# Altium footprint library switch-omron.PCBLIB: 9 footprints
Each footprint in its own frame and in the unit in brackets; x right, y up, seen from the top. Pads: shape width x height; smd on the part's side, far side on the other; paste and mask are expansions set on the pad; w line width, h text height; cw(c..) or ccw(c..) is an arc to the next point about the centre after c.
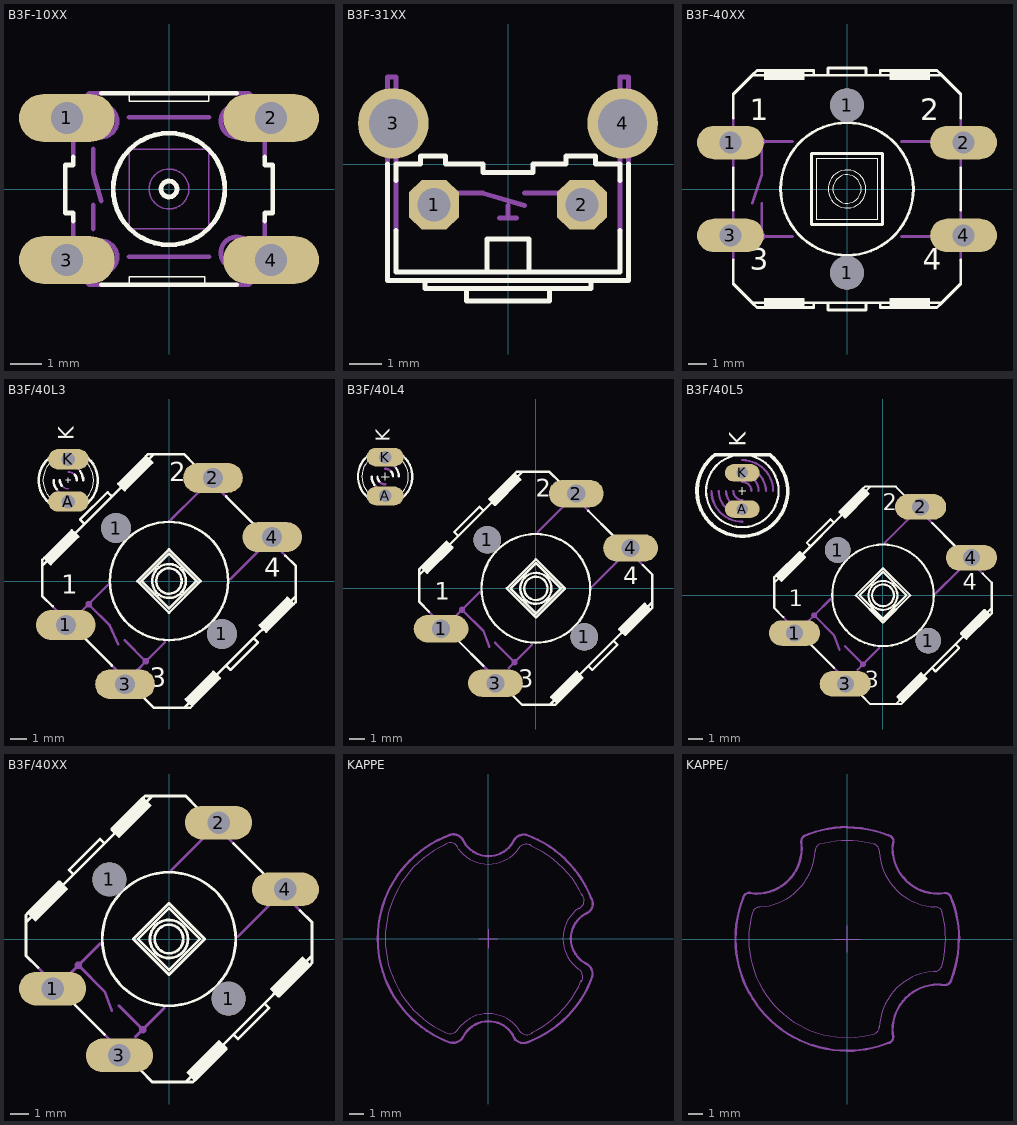
[diagram p0: the footprints below, top view; thin cyan lines are the x and y axes]

## B3F-10XX [mil]
pads (4):
  oval 120x60 hole 40: 1(-128,89) 2(128,89) 3(-128,-89) 4(128,-89)
Top Overlay:
  circle w6: c0,0 r70
  circle w6: c0,0 r10
  lines w2: -50,-120 -50,-110 45,-110 45,-120 ; -50,120 -50,110 50,110 50,120
  lines w6: -120,-40 -120,-30 -130,-30 -130,30 -120,30 -120,40 ; -85,-120 -50,-120 45,-120 85,-120 ; -85,120 -50,120 50,120 85,120 ; 120,-40 120,-30 130,-30 130,30 120,30 120,40
Mechanical 16:
  circle w6: c-85,-85 r20
  circle w6: c85,-80 r20
  circle w6: c85,85 r20
  circle w6: c-85,85 r20
  circle w2: c0,0 r25
  lines w2: -50,-50 -50,50 50,50 50,-50 -50,-50
  lines w6: -120,-40 -120,-100 -100,-120 -85,-120 ; -120,40 -120,100 -100,120 -85,120 ; -95,-50 -95,-20 ; -95,50 -95,20 -85,-15 ; -50,-85 50,-85 ; -50,90 50,90 ; 85,-120 100,-120 120,-100 120,-40 ; 85,120 100,120 120,100 120,40
  text "1" at -170,65 h77.5
  text "2" at 140,60 h77.5
  text "3" at -180,-110 h77.5
  text "4" at 140,-110 h77.5

## B3F-31XX [mil]
pads (4):
  oct 60x60 hole 40: 1(-89,-49) 2(89,-49)
  round 85 hole 59: 3(-138,49) 4(138,49)
Top Overlay:
  lines w6: -145,0 -145,-140 100,-140 ; -135,-80 -135,-130 -25,-130 ; -135,-20 -135,0 -105,0 -105,10 -75,10 -75,0 -30,0 -30,-10 30,-10 30,0 70,0 70,10 105,10 105,0 135,0 135,-20 ; -100,-140 -100,-150 -50,-150 ; 135,-80 135,-130 25,-130 ; 145,0 145,-140 100,-140 ; -50,-150 -50,-165 50,-165 50,-150 ; -50,-150 50,-150 ; -25,-130 -25,-90 25,-90 25,-130 ; -25,-130 25,-130 ; 50,-150 100,-150 100,-140
Mechanical 16:
  lines w6: -145,0 -145,105 -135,105 -135,0 ; -135,-80 -135,-20 ; -65,-35 -30,-35 20,-50 ; -10,-65 0,-65 ; 0,-50 0,-65 ; 10,-65 0,-65 ; 20,-35 65,-35 ; 135,-80 135,-20 ; 135,0 135,105 145,105 145,0

## B3F-40XX [mil]
pads (6):
  oval 141x70.5 hole 47: 1(-246,98) 2(246,98) 3(-246,-98) 4(246,-98)
  round 71 hole 71: 1(0,-177) 1(0,177)
Top Overlay:
  circle w6: c0,0 r140
  circle w2: c0,0 r40
  circle w2: c0,0 r30
  rectangle: 90,230 175,250
  rectangle: -175,230 -90,250
  rectangle: 90,-250 175,-230
  rectangle: -175,-250 -90,-230
  lines w2: -65,-65 65,-65 65,65 -65,65 -65,-65
  lines w6: -240,-150 -240,-200 -200,-240 ; -240,-45 -240,45 ; -240,150 -240,200 -200,240 ; 240,-150 240,-200 200,-240 ; 240,-45 240,45 ; 240,150 240,200 200,240 ; -200,-240 -70,-240 ; -200,-240 -190,-250 -70,-250 -70,-240 ; -200,240 -70,240 ; -200,240 -190,250 -70,250 -70,240 ; -70,-240 -40,-240 ; -70,240 -40,240 ; -40,-240 -40,-255 40,-255 40,-240 ; -40,-240 40,-240 ; -40,240 -40,255 40,255 40,240 ; -40,240 40,240 ; 40,-240 70,-240 ; 40,240 70,240 ; 70,-240 70,-250 190,-250 200,-240 ; 70,-240 200,-240 ; 70,240 200,240 ; 70,240 70,250 190,250 200,240 ; -75,-75 75,-75 75,75 -75,75 -75,-75
  text "1" at -205,130 h77.5
  text "2" at 155,130 h77.5
  text "3" at -205,-185 h77.5
  text "4" at 160,-185 h77.5
Mechanical 16:
  circle w6: c-180,100 r5
  circle w6: c-180,-100 r5
  rectangle: 240,-115 260,-80
  rectangle: 240,80 260,115
  rectangle: -260,80 -240,115
  rectangle: -260,-115 -240,-80
  lines w6: -240,-150 -240,-45 ; -240,45 -240,150 ; -200,-100 -180,-100 ; -200,-30 -180,30 -180,100 ; -200,100 -180,100 ; -180,-30 -180,-100 ; -115,-100 -180,-100 ; -115,100 -180,100 ; 115,-100 200,-100 ; 115,100 200,100 ; 240,-150 240,-45 ; 240,45 240,150

## B3F/40L3 [mil]
pads (8):
  oval 141x70.5 hole 47: 1(-244,-104) 2(104,244) 3(-104,-244) 4(244,104)
  round 71 hole 71: 1(-125,125) 1(125,-125)
  oval 96x48 hole 32: A(-238,188) K(-238,288)
Top Overlay:
  circle w6: c0,0 r140
  circle w6: c0,0 r40
  circle w6: c0,0 r30
  lines w2: -277.69,193 cw(c-238,238) -277.69,283 ; -244,238 -232,238 ; -238,232 -238,244 ; -198.31,193 ccw(c-238,238) -198.31,283
  lines w6: -277.19,180 cw(c-238,238) -277.19,296 ; -275,-60 -300,-35 -300,35 ; -273,238 ccw(c-238.37,238.12) -265.81,217 ; -258,238 ccw(c-238,238) -253.2,225 ; -230,115 -290,55 -290,50 ; -222.8,251 cw(c-238,238) -218,238 ; -220,105 -280,45 -280,40 ; -210.19,260 cw(c-239.11,238.38) -203,238 ; -200,-135 -135,-200 ; -198.81,180 ccw(c-238,238) -198.81,296 ; -115,230 -55,290 -55,295 ; -105,220 -45,280 -45,285 ; -60,-275 -35,-300 35,-300 ; 60,275 35,300 -35,300 ; 105,-220 45,-280 45,-285 ; 115,-230 55,-290 55,-295 ; 135,200 200,135 ; 200,-135 210,-145 145,-210 135,-200 ; 220,-105 280,-45 280,-40 ; 230,-115 290,-55 290,-50 ; 275,60 300,35 300,-35 ; -300,35 -200,135 ; -300,35 -300,50 -295,55 ; -295,55 -230,120 -225,115 ; -295,55 -290,50 ; -290,50 -225,115 ; -290,50 -285,45 ; -285,45 -220,110 ; -285,45 -280,40 ; -280,40 -215,105 -220,110 ; -225,115 -220,110 ; -200,135 -210,145 -145,210 -135,200 ; -200,135 -135,200 ; -135,200 -35,300 ; -115,225 -120,230 -55,295 ; -115,225 -50,290 ; -115,225 -110,220 ; -110,220 -45,285 ; -110,220 -105,215 -40,280 -45,285 ; -55,295 -50,290 ; -55,295 -50,300 -35,300 ; -50,290 -45,285 ; 35,-300 135,-200 ; 35,-300 50,-300 55,-295 ; 40,-280 105,-215 110,-220 ; 40,-280 45,-285 ; 40,-280 55,-295 ; 45,-285 110,-220 ; 45,-285 50,-290 ; 50,-290 115,-225 ; 50,-290 55,-295 ; 55,-295 120,-230 115,-225 ; 110,-220 115,-225 ; 135,-200 300,-35 ; 220,-110 215,-105 280,-40 ; 220,-110 285,-45 ; 220,-110 225,-115 ; 225,-115 290,-50 ; 225,-115 230,-120 295,-55 ; 280,-40 285,-45 ; 285,-45 290,-50 ; 290,-50 295,-55 ; 295,-55 300,-50 300,-35 ; -75,0 0,-75 75,0 0,75 -75,0 ; -65,0 0,-65 65,0 0,65 -65,0
  text "K" at -214,333 h62
  text "1" at -255,-45 h77.5
  text "2" at 0,220 h77.5
  text "3" at -45,-265 h77.5
  text "4" at 225,-5 h77.5
Mechanical 2:
  text "LED3" at -178,318 h77.5
Mechanical 16:
  circle w6: c-55,-190 r5
  circle w6: c-190,-55 r5
  lines w4: -277.68,193 ccw(c-238,238) -198.32,193 ; -277.68,283 cw(c-238,238) -198.32,283 ; -277.19,180 ccw(c-238,238) -198.81,180 ; -277.19,296 cw(c-238,238) -198.81,296 ; -269,300 -207,300 ; -265.81,217 ccw(c-237.75,238.13) -238,203 ; -253.2,225 ccw(c-238,238) -238,218 ; -238,258 cw(c-238,238) -222.8,251 ; -238,273 cw(c-237.24,238.37) -210.19,260
  lines w6: -275,-60 -250,-85 ; -250,-90 -230,-110 -225,-110 ; -235,-115 -255,-95 -255,-90 ; -210,-75 -190,-55 ; -200,-135 -225,-110 ; -145,-10 -190,-55 ; -135,-200 -110,-225 ; -120,-150 -140,-105 -190,-55 ; -110,-230 -90,-250 -85,-250 ; -105,-140 -55,-190 ; -95,-255 -115,-235 -115,-230 ; -75,-210 -55,-190 ; -60,-275 -85,-250 ; -10,-145 -55,-190 ; 5,145 70,210 ; 60,275 85,250 ; 95,255 115,235 115,230 ; 110,230 90,250 85,250 ; 135,200 110,225 ; 145,5 210,70 ; 200,135 250,85 ; 235,115 255,95 255,90 ; 250,90 230,110 225,110 ; 275,60 250,85 ; -255,-90 -250,-85 ; -255,-90 -230,-115 ; -255,-90 -260,-95 -235,-120 -230,-115 ; -250,-85 -225,-110 ; -230,-115 -225,-110 ; -115,-230 -110,-225 ; -115,-230 -90,-255 ; -115,-230 -120,-235 -95,-260 -90,-255 ; -110,-225 -85,-250 ; -90,-255 -85,-250 ; 85,250 90,255 ; 85,250 110,225 ; 90,255 95,260 120,235 115,230 ; 90,255 115,230 ; 110,225 115,230 ; 225,110 250,85 ; 225,110 230,115 ; 230,115 235,120 260,95 255,90 ; 230,115 255,90 ; 250,85 255,90

## B3F/40L4 [mil]
pads (8):
  oval 141x70.5 hole 47: 1(-244,-104) 2(104,244) 3(-104,-244) 4(244,104)
  round 71 hole 71: 1(-125,125) 1(125,-125)
  oval 96x48 hole 32: A(-388,238) K(-388,338)
Top Overlay:
  circle w6: c0,0 r140
  circle w6: c0,0 r40
  circle w6: c0,0 r30
  lines w2: -427.69,243 cw(c-388,288) -427.69,333 ; -398,288 -378,288 ; -388,278 -388,298 ; -348.31,243 ccw(c-388,288) -348.31,333
  lines w6: -427.19,230 cw(c-388,288) -427.19,346 ; -423,288 ccw(c-388.37,288.12) -415.81,267 ; -408,288 ccw(c-388,288) -403.2,275 ; -372.8,301 cw(c-388,288) -368,288 ; -360.19,310 cw(c-389.11,288.38) -353,288 ; -348.81,230 ccw(c-388,288) -348.81,346 ; -275,-60 -300,-35 -300,35 ; -230,115 -290,55 -290,50 ; -220,105 -280,45 -280,40 ; -200,-135 -135,-200 ; -115,230 -55,290 -55,295 ; -105,220 -45,280 -45,285 ; -60,-275 -35,-300 35,-300 ; 60,275 35,300 -35,300 ; 105,-220 45,-280 45,-285 ; 115,-230 55,-290 55,-295 ; 135,200 200,135 ; 200,-135 210,-145 145,-210 135,-200 ; 220,-105 280,-45 280,-40 ; 230,-115 290,-55 290,-50 ; 275,60 300,35 300,-35 ; -300,35 -200,135 ; -300,35 -300,50 -295,55 ; -295,55 -230,120 -225,115 ; -295,55 -290,50 ; -290,50 -225,115 ; -290,50 -285,45 ; -285,45 -220,110 ; -285,45 -280,40 ; -280,40 -215,105 -220,110 ; -225,115 -220,110 ; -200,135 -210,145 -145,210 -135,200 ; -200,135 -135,200 ; -135,200 -35,300 ; -115,225 -120,230 -55,295 ; -115,225 -50,290 ; -115,225 -110,220 ; -110,220 -45,285 ; -110,220 -105,215 -40,280 -45,285 ; -55,295 -50,290 ; -55,295 -50,300 -35,300 ; -50,290 -45,285 ; 35,-300 135,-200 ; 35,-300 50,-300 55,-295 ; 40,-280 105,-215 110,-220 ; 40,-280 45,-285 ; 40,-280 55,-295 ; 45,-285 110,-220 ; 45,-285 50,-290 ; 50,-290 115,-225 ; 50,-290 55,-295 ; 55,-295 120,-230 115,-225 ; 110,-220 115,-225 ; 135,-200 300,-35 ; 220,-110 215,-105 280,-40 ; 220,-110 285,-45 ; 220,-110 225,-115 ; 225,-115 290,-50 ; 225,-115 230,-120 295,-55 ; 280,-40 285,-45 ; 285,-45 290,-50 ; 290,-50 295,-55 ; 295,-55 300,-50 300,-35 ; -75,0 0,-75 75,0 0,75 -75,0 ; -65,0 0,-65 65,0 0,65 -65,0
  text "1" at -260,-45 h77.5
  text "2" at 0,220 h77.5
  text "3" at -45,-270 h77.5
  text "4" at 225,-5 h77.5
  text "K" at -364,378 h62
Mechanical 2:
  text "LED3" at -278,293 h77.5
Mechanical 16:
  circle w6: c-55,-190 r5
  circle w6: c-190,-55 r5
  lines w2: -427.68,243 ccw(c-388,288) -348.32,243 ; -427.68,333 cw(c-388,288) -348.32,333
  lines w6: -427.19,230 ccw(c-388,288) -348.81,230 ; -427.19,346 cw(c-388,288) -348.81,346 ; -417,351 -359,351 ; -415.81,267 ccw(c-387.75,288.13) -388,253 ; -403.2,275 ccw(c-388,288) -388,268 ; -388,308 cw(c-388,288) -372.8,301 ; -388,323 cw(c-387.24,288.37) -360.19,310 ; -275,-60 -250,-85 ; -250,-90 -230,-110 -225,-110 ; -235,-115 -255,-95 -255,-90 ; -205,-70 -190,-55 ; -200,-135 -225,-110 ; -145,-10 -190,-55 ; -135,-200 -110,-225 ; -120,-150 -135,-110 -190,-55 ; -110,-230 -90,-250 -85,-250 ; -105,-140 -55,-190 ; -95,-255 -115,-235 -115,-230 ; -70,-205 -55,-190 ; -60,-275 -85,-250 ; -10,-145 -55,-190 ; 5,145 70,210 ; 60,275 85,250 ; 95,255 115,235 115,230 ; 110,230 90,250 85,250 ; 135,200 110,225 ; 145,5 210,70 ; 200,135 250,85 ; 235,115 255,95 255,90 ; 250,90 230,110 225,110 ; 275,60 250,85 ; -255,-90 -250,-85 ; -255,-90 -230,-115 ; -255,-90 -260,-95 -235,-120 -230,-115 ; -250,-85 -225,-110 ; -230,-115 -225,-110 ; -115,-230 -110,-225 ; -115,-230 -90,-255 ; -115,-230 -120,-235 -95,-260 -90,-255 ; -110,-225 -85,-250 ; -90,-255 -85,-250 ; 85,250 90,255 ; 85,250 110,225 ; 90,255 95,260 120,235 115,230 ; 90,255 115,230 ; 110,225 115,230 ; 225,110 250,85 ; 225,110 230,115 ; 230,115 235,120 260,95 255,90 ; 230,115 255,90 ; 250,85 255,90

## B3F/40L5 [mil]
pads (8):
  oval 141x70.5 hole 47: 1(-244,-104) 2(104,244) 3(-104,-244) 4(244,104)
  round 71 hole 71: 1(-125,125) 1(125,-125)
  oval 96x48 hole 32: A(-388,238) K(-388,338)
Top Overlay:
  circle w6: c0,0 r140
  circle w6: c0,0 r40
  circle w6: c0,0 r30
  circle w6: c-388,288 r100
  lines w2: -398,288 -378,288 ; -388,278 -388,298
  lines w6: -275,-60 -300,-35 -300,35 ; -230,115 -290,55 -290,50 ; -220,105 -280,45 -280,40 ; -200,-135 -135,-200 ; -115,230 -55,290 -55,295 ; -105,220 -45,280 -45,285 ; -60,-275 -35,-300 35,-300 ; 60,275 35,300 -35,300 ; 105,-220 45,-280 45,-285 ; 115,-230 55,-290 55,-295 ; 135,200 200,135 ; 200,-135 210,-145 145,-210 135,-200 ; 220,-105 280,-45 280,-40 ; 230,-115 290,-55 290,-50 ; 275,60 300,35 300,-35 ; -300,35 -200,135 ; -300,35 -300,50 -295,55 ; -295,55 -230,120 -225,115 ; -295,55 -290,50 ; -290,50 -225,115 ; -290,50 -285,45 ; -285,45 -220,110 ; -285,45 -280,40 ; -280,40 -215,105 -220,110 ; -225,115 -220,110 ; -200,135 -210,145 -145,210 -135,200 ; -200,135 -135,200 ; -135,200 -35,300 ; -115,225 -120,230 -55,295 ; -115,225 -50,290 ; -115,225 -110,220 ; -110,220 -45,285 ; -110,220 -105,215 -40,280 -45,285 ; -55,295 -50,290 ; -55,295 -50,300 -35,300 ; -50,290 -45,285 ; 35,-300 135,-200 ; 35,-300 50,-300 55,-295 ; 40,-280 105,-215 110,-220 ; 40,-280 45,-285 ; 40,-280 55,-295 ; 45,-285 110,-220 ; 45,-285 50,-290 ; 50,-290 115,-225 ; 50,-290 55,-295 ; 55,-295 120,-230 115,-225 ; 110,-220 115,-225 ; 135,-200 300,-35 ; 220,-110 215,-105 280,-40 ; 220,-110 285,-45 ; 220,-110 225,-115 ; 225,-115 290,-50 ; 225,-115 230,-120 295,-55 ; 280,-40 285,-45 ; 285,-45 290,-50 ; 290,-50 295,-55 ; 295,-55 300,-50 300,-35 ; -75,0 0,-75 75,0 0,75 -75,0 ; -65,0 0,-65 65,0 0,65 -65,0
  lines w10: -463,388 -313,388 cw(c-388,288) -463,388
  text "K" at -363,410 h77.5
  text "1" at -260,-45 h77.5
  text "2" at 0,220 h77.5
  text "3" at -50,-270 h77.5
  text "4" at 220,0 h77.5
Mechanical 2:
  text "LED5" at -239,338 h77.5
Mechanical 16:
  circle w6: c-55,-190 r5
  circle w6: c-190,-55 r5
  lines w6: -473,288 ccw(c-388,288) -388,203 ; -453,288 ccw(c-388,288) -388,223 ; -433,288 ccw(c-388,288) -388,243 ; -413,288 ccw(c-388,288) -388,263 ; -388,313 cw(c-388,288) -363,288 ; -388,333 cw(c-388,288) -343,288 ; -388,353 cw(c-388,288) -323,288 ; -388,373 cw(c-388,288) -303,288 ; -275,-60 -250,-85 ; -250,-90 -230,-110 -225,-110 ; -235,-115 -255,-95 -255,-90 ; -205,-70 -190,-55 ; -200,-135 -225,-110 ; -145,-10 -190,-55 ; -135,-200 -110,-225 ; -120,-150 -135,-110 -190,-55 ; -110,-230 -90,-250 -85,-250 ; -105,-140 -55,-190 ; -95,-255 -115,-235 -115,-230 ; -70,-205 -55,-190 ; -60,-275 -85,-250 ; -10,-145 -55,-190 ; 5,145 70,210 ; 60,275 85,250 ; 95,255 115,235 115,230 ; 110,230 90,250 85,250 ; 135,200 110,225 ; 145,5 210,70 ; 200,135 250,85 ; 235,115 255,95 255,90 ; 250,90 230,110 225,110 ; 275,60 250,85 ; -255,-90 -250,-85 ; -255,-90 -230,-115 ; -255,-90 -260,-95 -235,-120 -230,-115 ; -250,-85 -225,-110 ; -230,-115 -225,-110 ; -115,-230 -110,-225 ; -115,-230 -90,-255 ; -115,-230 -120,-235 -95,-260 -90,-255 ; -110,-225 -85,-250 ; -90,-255 -85,-250 ; 85,250 90,255 ; 85,250 110,225 ; 90,255 95,260 120,235 115,230 ; 90,255 115,230 ; 110,225 115,230 ; 225,110 250,85 ; 225,110 230,115 ; 230,115 235,120 260,95 255,90 ; 230,115 255,90 ; 250,85 255,90

## B3F/40XX [mil]
pads (6):
  oval 141x70.5 hole 47: 1(-244,-104) 2(104,244) 3(-104,-244) 4(244,104)
  round 71 hole 71: 1(-125,125) 1(125,-125)
Top Overlay:
  circle w6: c0,0 r140
  circle w6: c0,0 r40
  circle w6: c0,0 r30
  lines w6: -275,-60 -300,-35 -300,35 ; -230,115 -290,55 -290,50 ; -220,105 -280,45 -280,40 ; -200,-135 -135,-200 ; -115,230 -55,290 -55,295 ; -105,220 -45,280 -45,285 ; -60,-275 -35,-300 35,-300 ; 60,275 35,300 -35,300 ; 105,-220 45,-280 45,-285 ; 115,-230 55,-290 55,-295 ; 135,200 200,135 ; 200,-135 210,-145 145,-210 135,-200 ; 220,-105 280,-45 280,-40 ; 230,-115 290,-55 290,-50 ; 275,60 300,35 300,-35 ; -300,35 -200,135 ; -300,35 -300,50 -295,55 ; -295,55 -230,120 -225,115 ; -295,55 -290,50 ; -290,50 -225,115 ; -290,50 -285,45 ; -285,45 -220,110 ; -285,45 -280,40 ; -280,40 -215,105 -220,110 ; -225,115 -220,110 ; -200,135 -210,145 -145,210 -135,200 ; -200,135 -135,200 ; -135,200 -35,300 ; -115,225 -120,230 -55,295 ; -115,225 -50,290 ; -115,225 -110,220 ; -110,220 -45,285 ; -110,220 -105,215 -40,280 -45,285 ; -55,295 -50,290 ; -55,295 -50,300 -35,300 ; -50,290 -45,285 ; 35,-300 135,-200 ; 35,-300 50,-300 55,-295 ; 40,-280 105,-215 110,-220 ; 40,-280 45,-285 ; 40,-280 55,-295 ; 45,-285 110,-220 ; 45,-285 50,-290 ; 50,-290 115,-225 ; 50,-290 55,-295 ; 55,-295 120,-230 115,-225 ; 110,-220 115,-225 ; 135,-200 300,-35 ; 220,-110 215,-105 280,-40 ; 220,-110 285,-45 ; 220,-110 225,-115 ; 225,-115 290,-50 ; 225,-115 230,-120 295,-55 ; 280,-40 285,-45 ; 285,-45 290,-50 ; 290,-50 295,-55 ; 295,-55 300,-50 300,-35 ; -75,0 0,-75 75,0 0,75 -75,0 ; -65,0 0,-65 65,0 0,65 -65,0
Mechanical 16:
  circle w6: c-55,-190 r5
  circle w6: c-190,-55 r5
  lines w6: -275,-60 -250,-85 ; -250,-90 -230,-110 -225,-110 ; -235,-115 -255,-95 -255,-90 ; -205,-70 -190,-55 ; -200,-135 -225,-110 ; -145,-10 -190,-55 ; -135,-200 -110,-225 ; -120,-150 -135,-110 -190,-55 ; -110,-230 -90,-250 -85,-250 ; -105,-140 -55,-190 ; -95,-255 -115,-235 -115,-230 ; -70,-205 -55,-190 ; -60,-275 -85,-250 ; -10,-145 -55,-190 ; 5,145 70,210 ; 60,275 85,250 ; 95,255 115,235 115,230 ; 110,230 90,250 85,250 ; 135,200 110,225 ; 145,5 210,70 ; 200,135 250,85 ; 235,115 255,95 255,90 ; 250,90 230,110 225,110 ; 275,60 250,85 ; -255,-90 -250,-85 ; -255,-90 -230,-115 ; -255,-90 -260,-95 -235,-120 -230,-115 ; -250,-85 -225,-110 ; -230,-115 -225,-110 ; -115,-230 -110,-225 ; -115,-230 -90,-255 ; -115,-230 -120,-235 -95,-260 -90,-255 ; -110,-225 -85,-250 ; -90,-255 -85,-250 ; 85,250 90,255 ; 85,250 110,225 ; 90,255 95,260 120,235 115,230 ; 90,255 115,230 ; 110,225 115,230 ; 225,110 250,85 ; 225,110 230,115 ; 230,115 235,120 260,95 255,90 ; 230,115 255,90 ; 250,85 255,90

## KAPPE [mil]
Mechanical 16:
  lines w2: -118.15,249 cw(c-101.69,232.52) -79.99,241 ; -115.55,-249.08 ccw(c-102,-228) -80,-240 cw(c0,-300) 0,-200 cw(c0.18,-300.35) 81,-240.86 ; -115.53,251 ccw(c2.13,0.09) -275,0 ccw(c0,0) -115.24,-249.68 ; -80.64,240 ccw(c0.13,299.07) 0,199 ccw(c0,299) 80,239 ; -25,0 25,0 ; 0,-25 0,25 ; 79,238 cw(c101.65,226.25) 115,248 ; 80,-240 ccw(c102.43,-231.72) 119,-248.95 ; 112,248 cw(c3.99,-4.02) 251,115 ; 115,-251 ccw(c-4.87,-3.67) 248,-111.36 ; 238,-79 cw(c226.46,-101.43) 248,-114.55 ; 239,-80 cw(c299,0) 199,0 cw(c299.42,0.05) 240,81 ; 240,80 ccw(c231.74,102.44) 249,119
  lines w6: -104.89,276 cw(c-93.25,249.24) -67,262 ; -101.72,277 ccw(c0.06,0.05) -295,0 ccw(c0,0) -99.55,-277.7 ; -100,-277 ccw(c-94,-247) -66.15,-259.66 ; -68.1,-263.57 cw(c0,-295) 0,-220 cw(c0.45,-295.7) 69,-263.57 ; -68.1,264 ccw(c0.33,295.21) 0,220 ccw(c0.12,295.92) 69,264 ; 67,-262 ccw(c93.06,-248.94) 105,-275.53 ; 67,260 cw(c94.21,247.71) 100,277 ; 99,278 cw(c-0.13,1.12) 275,105 ; 105,-276 ccw(c0.25,-0.46) 278,-99.19 ; 260,-66.15 cw(c247.17,-93.79) 277,-100 ; 262,67 ccw(c249.18,93.3) 276,105 ; 264,-68.1 cw(c295.21,0.33) 220,0 cw(c295.92,0.12) 264,69

## KAPPE/ [mil]
Mechanical 16:
  lines w2: -250.64,70 ccw(c3.17,0.43) -260,0 ccw(c0.42,0.32) 73,-249.79 ; -250.26,69 cw(c-229.6,63.68) -229,85 ; -230.87,85 ccw(c-239.61,240.15) -130,130 ccw(c-240.51,240.2) -84.61,233 ; -84.29,232 cw(c-64.98,232.99) -72,251 ; -73.67,250 cw(c-2.26,0.33) 0,260 cw(c2.12,-3.13) 74,250 ; -35,0 35,0 ; 0,-35 0,35 ; 70,251 cw(c64.22,229.98) 86,229 ; 72,-250 ccw(c65.36,-231.51) 85,-231.04 ; 85,-232.6 cw(c240.19,-239.5) 130,-130 cw(c240.06,-240.18) 231,-84.71 ; 85,231 ccw(c240.32,239.68) 130,130 ccw(c239.7,240.71) 233,85 ; 229,-85 ccw(c230.37,-63.53) 251,-69.63 ; 232,85 cw(c232.49,65.33) 251,72 ; 250,-73.04 ccw(c0.23,-1.64) 260,0 ccw(c-0.82,2.43) 250,74
  lines w6: -274.87,109 cw(c-257.74,104.75) -254,122 ; -273.9,110 ccw(c1.14,0.22) -295,0 ccw(c0,0) 0,-295 ccw(c0.11,0.52) 113,-272.59 ; -255.52,122 ccw(c-232.36,240.5) -240,120 ccw(c-240,240) -120,240 ccw(c-240.19,240.03) -121.2,257 ; -121.26,256 cw(c-103.7,257.46) -112,273 ; -112.8,273 cw(c1.47,0.7) 0,296 ; 0,295 cw(c0.48,-1.1) 110,274 ; 109,275 cw(c104.68,257.8) 122,254 ; 112,-274 ccw(c103.37,-257.44) 122,-256.08 ; 122,-256.97 cw(c240.4,-234.42) 120,-240 cw(c240,-240) 240,-120 cw(c240.24,-243.7) 256,-121.01 ; 122,256 ccw(c244.19,232.6) 120,240 ccw(c240,240) 240,120 ccw(c234.43,240.59) 257,122 cw(c257.9,104.07) 274,112 ; 254,-121 ccw(c258.06,-103.93) 275,-108.5 ; 273,113 cw(c0.19,-1.37) 296,0 ; 274,-109.56 ccw(c0.05,-0.26) 295,0